# EAGLE library part FRC_MALE_10 (library dragCustom)
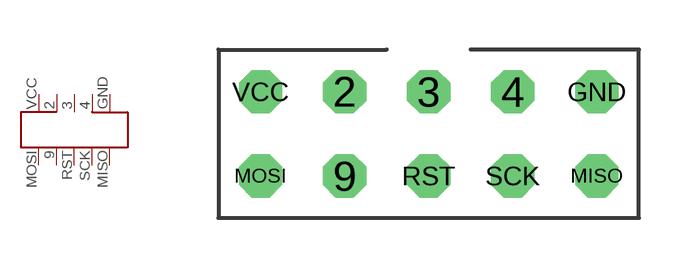
[diagram p3: symbol with the pads of FRC_MALE_10; footprint FRC_MALE_10]

Designator prefix -

## FRC_MALE_10  [FRC_MALE_10]
2  2
3  3
4  4
9  9
GND  5
MISO  6
MOSI  10
RST  8
SCK  7
VCC  VCC

## Footprint FRC_MALE_10 (pad centres in mm)
drill 0.8 octagon: 2 -2.54,0; 3 0,0; 4 2.54,0; 9 -2.54,-2.54; GND 5.08,0; MISO 5.08,-2.54; MOSI -5.08,-2.54; RST 0,-2.54; SCK 2.54,-2.54; VCC -5.08,0